# Altium schematic symbol library Altium_Other.SchLib: 11 symbols
Pins are listed as number, name and electrical type; pins without a type are passive.

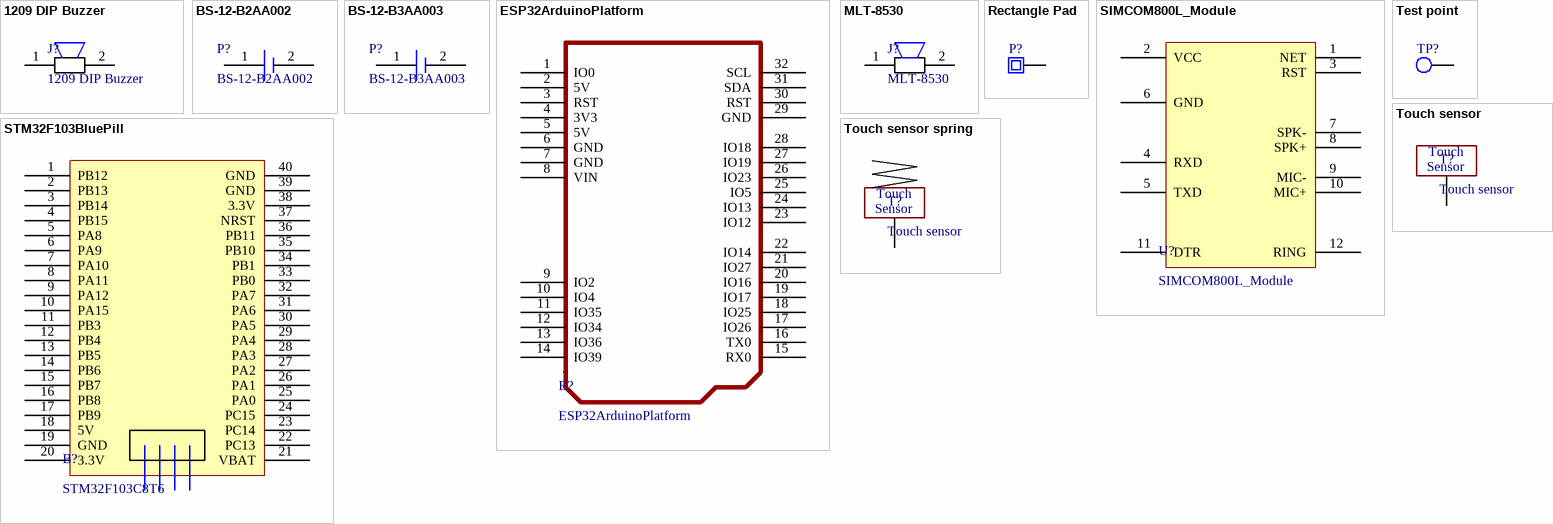
[diagram p0: symbols 1209 DIP Buzzer to Touch sensor spring]

## 1209 DIP Buzzer
designator J?
1209 DIP Buzzer 12x9mm 93dB; Manufacturer: OEM; ComponentLink1Description: Datasheet; ComponentLink1URL: N/A; LCSC Part #: N/A; Manufacturer Part Number: N/A; Mount: THT; Operating Temperature Max: + 70 C; Operating Temperature Min: - 20 C; Package / Case: 1209; Packaging: Tape and Reel; Supplier 1: Mouser; Supplier 1 Part Number: N/A; Supplier 1 URL: N/A; Supplier 2: Digi-Key; Supplier 2 Part Number: N/A; Supplier 2 URL: N/A; Supplier 3: thegioiic; Supplier 3 Part Number: 1209 DIP Buzzer; Supplier 3 URL: https://www.thegioiic.com/1209-dip-buzzer-12x9mm-93db; Value: 1209 DIP Buzzer
footprint 1209_DIP_BUZZER
pins: 1, 2

## BS-12-B2AA002
designator P?
Battery base -25℃~+85℃ SMD Battery Connectors ROHS; Manufacturer: MYOUNG; Value: CR1220; ComponentLink1Description: Datasheet; ComponentLink1URL: https://datasheet.lcsc.com/lcsc/2012311834_MYOUNG-BS-12-B2AA002_C964721.pdf; LCSC Part #: C964721; Manufacturer Part Number: BS-12-B2AA002; Mount: SMD/SMT; Operating Temperature Max: + 85 C; Operating Temperature Min: - 40 C; Package / Case: CR1220;CR1220D;ML1220; Packaging: Tape and Reel; Supplier 1: Mouser; Supplier 1 Part Number: N/A; Supplier 1 URL: N/A; Supplier 2: Digi-Key; Supplier 2 Part Number: N/A; Supplier 2 URL: N/A; Supplier 3: thegioiic; Supplier 3 Part Number: N/A; Supplier 3 URL: N/A
footprint BS-12-B2AA002/3
pins: 1, 2

## BS-12-B3AA003
designator P?
Battery base -25℃~+85℃ SMD Battery Connectors ROHS; Manufacturer: MYOUNG; ComponentLink1Description: Datasheet; ComponentLink1URL: https://www.lcsc.com/datasheet/lcsc_datasheet_2012181808_MYOUNG-BS-12-B3AA003_C964723.pdf; LCSC Part #: C964723; Manufacturer Part Number: BS-12-B3AA003; Mount: SMD/SMT; Operating Temperature Max: + 85 C; Operating Temperature Min: - 40 C; Package / Case: CR1220;CR1220D;ML1220; Packaging: Tape and Reel; Supplier 1: Mouser; Supplier 1 Part Number: N/A; Supplier 1 URL: N/A; Supplier 2: Digi-Key; Supplier 2 Part Number: N/A; Supplier 2 URL: N/A; Supplier 3: thegioiic; Supplier 3 Part Number: N/A; Supplier 3 URL: N/A; Value: BS-12-B3AA003
footprint BS-12-B2AA002/3
pins: 1, 2

## ESP32ArduinoPlatform
designator B?  (no BOM)
footprint ESP32ARDUINOPLATFORM (ESP32ArduinoPlatform)
pins: 1 IO0, 2 5V, 3 RST, 4 3V3, 5 5V, 6 GND, 7 GND, 8 VIN, 9 IO2, 10 IO4, 11 IO35, 12 IO34, 13 IO36, 14 IO39, 15 RX0, 16 TX0, 17 IO26, 18 IO25, 19 IO17, 20 IO16, 21 IO27, 22 IO14, 23 IO12, 24 IO13, 25 IO5, 26 IO23, 27 IO19, 28 IO18, 29 GND, 30 RST, 31 SDA, 32 SCL

## MLT-8530
designator J?
80dB Passive (external drive) Electromagnetic Type 2.7kHz SMD,8.5x8.5mm Buzzers ROHS; Manufacturer: Jiangsu Huaneng Elec; ComponentLink1Description: Datasheet; ComponentLink1URL: https://www.lcsc.com/datasheet/lcsc_datasheet_2410010301_Jiangsu-Huaneng-Elec-MLT-8530_C94599.pdf; LCSC Part #: C94599; Manufacturer Part Number: MLT-8530; Mount: SMT/SMD; Operating Temperature Max: + 70 C; Operating Temperature Min: - 20 C; Package / Case: SMD,8.5x8.5mm; Packaging: Tape and Reel; Supplier 1: Mouser; Supplier 1 Part Number: N/A; Supplier 1 URL: N/A; Supplier 2: Digi-Key; Supplier 2 Part Number: N/A; Supplier 2 URL: N/A; Supplier 3: thegioiic; Supplier 3 Part Number: N/A; Supplier 3 URL: N/A; Value: MLT-8530
footprint MLT-8530
pins: 1, 2

## Rectangle Pad
designator P?  (value not drawn)  (no BOM)
Manufacturer: OEM; ComponentLink1Description: Datasheet; ComponentLink1URL: N/A; LCSC Part #: N/A; Manufacturer Part Number: N/A; Mount: N/A; Operating Temperature Max: N/A; Operating Temperature Min: N/A; Package / Case: N/A; Packaging: N/A; Supplier 1: Mouser; Supplier 1 Part Number: N/A; Supplier 1 URL: N/A; Supplier 2: Digi-Key; Supplier 2 Part Number: N/A; Supplier 2 URL: N/A; Supplier 3: thegioiic; Supplier 3 Part Number: N/A; Supplier 3 URL: N/A; Value: N/A
footprint RECTANGLE PAD
pins: 1 27

## SIMCOM800L_Module
designator U?
Manufacturer: OEM; ComponentLink1Description: Datasheet; ComponentLink1URL: N/A; LCSC Part #: N/A; Manufacturer Part Number: N/A; Mount: N/A; Operating Temperature Max: N/A; Operating Temperature Min: N/A; Package / Case: N/A; Packaging: N/A; Supplier 1: Mouser; Supplier 1 Part Number: N/A; Supplier 1 URL: N/A; Supplier 2: Digi-Key; Supplier 2 Part Number: N/A; Supplier 2 URL: N/A; Supplier 3: thegioiic; Supplier 3 Part Number: N/A; Supplier 3 URL: N/A; Value: N/A
footprint SIMCOM800L
pins: 1 NET, 2 VCC, 3 RST, 4 RXD, 5 TXD, 6 GND, 7 SPK-, 8 SPK+, 9 MIC-, 10 MIC+, 11 DTR, 12 RING

## STM32F103BluePill
designator B?, comment STM32F103C8T6
footprint BLUEPILL
pins: 1 PB12, 2 PB13, 3 PB14, 4 PB15, 5 PA8, 6 PA9, 7 PA10, 8 PA11, 9 PA12, 10 PA15, 11 PB3, 12 PB4, 13 PB5, 14 PB6, 15 PB7, 16 PB8, 17 PB9, 18 5V, 19 GND, 20 3.3V, 21 VBAT, 22 PC13, 23 PC14, 24 PC15, 25 PA0, 26 PA1, 27 PA2, 28 PA3, 29 PA4, 30 PA5, 31 PA6, 32 PA7, 33 PB0, 34 PB1, 35 PB10, 36 PB11, 37 NRST, 38 3.3V, 39 GND, 40 GND

## Test point
designator TP?  (value not drawn)  (no BOM)
Manufacturer: OEM; ComponentLink1Description: Datasheet; ComponentLink1URL: N/A; LCSC Part #: N/A; Manufacturer Part Number: N/A; Mount: N/A; Operating Temperature Max: N/A; Operating Temperature Min: N/A; Package / Case: N/A; Packaging: N/A; Supplier 1: Mouser; Supplier 1 Part Number: N/A; Supplier 1 URL: N/A; Supplier 2: Digi-Key; Supplier 2 Part Number: N/A; Supplier 2 URL: N/A; Supplier 3: thegioiic; Supplier 3 Part Number: N/A; Supplier 3 URL: N/A; Value: N/A
footprint TP
footprint TP SMALL
pins: 1 27

## Touch sensor
designator T?  (no BOM)
Touch sensor PCB; Manufacturer: OEM; ComponentLink1Description: Datasheet; ComponentLink1URL: N/A; LCSC Part #: N/A; Manufacturer Part Number: N/A; Mount: N/A; Operating Temperature Max: N/A; Operating Temperature Min: N/A; Package / Case: N/A; Packaging: N/A; Supplier 1: Mouser; Supplier 1 Part Number: N/A; Supplier 1 URL: N/A; Supplier 2: Digi-Key; Supplier 2 Part Number: N/A; Supplier 2 URL: N/A; Supplier 3: thegioiic; Supplier 3 Part Number: N/A; Supplier 3 URL: N/A; Value: N/A
footprint TOUCHSENSOR_PCB
pins: 1 27
text: Touch; Sensor

## Touch sensor spring
designator T?, comment Touch sensor  (no BOM)
9x12mm LX-0912; Manufacturer: OEM; ComponentLink1Description: Datasheet; ComponentLink1URL: N/A; LCSC Part #: N/A; Manufacturer Part Number: N/A; Mount: N/A; Operating Temperature Max: N/A; Operating Temperature Min: N/A; Package / Case: N/A; Packaging: N/A; Supplier 1: Mouser; Supplier 1 Part Number: N/A; Supplier 1 URL: N/A; Supplier 2: Digi-Key; Supplier 2 Part Number: N/A; Supplier 2 URL: N/A; Supplier 3: thegioiic; Supplier 3 Part Number: N/A; Supplier 3 URL: N/A; Value: N/A
footprint TOUCHSENSOR_SPRING
footprint TOUCHSENSOR_SPRING_CENTER
pins: 1 27
text: Touch; Sensor